# Altium footprint library 74LVC07A.PcbLib: 1 footprints
Each footprint in its own frame and in the unit in brackets; x right, y up, seen from the top. Pads: shape width x height; smd on the part's side, far side on the other; paste and mask are expansions set on the pad; w line width, h text height; cw(c..) or ccw(c..) is an arc to the next point about the centre after c.
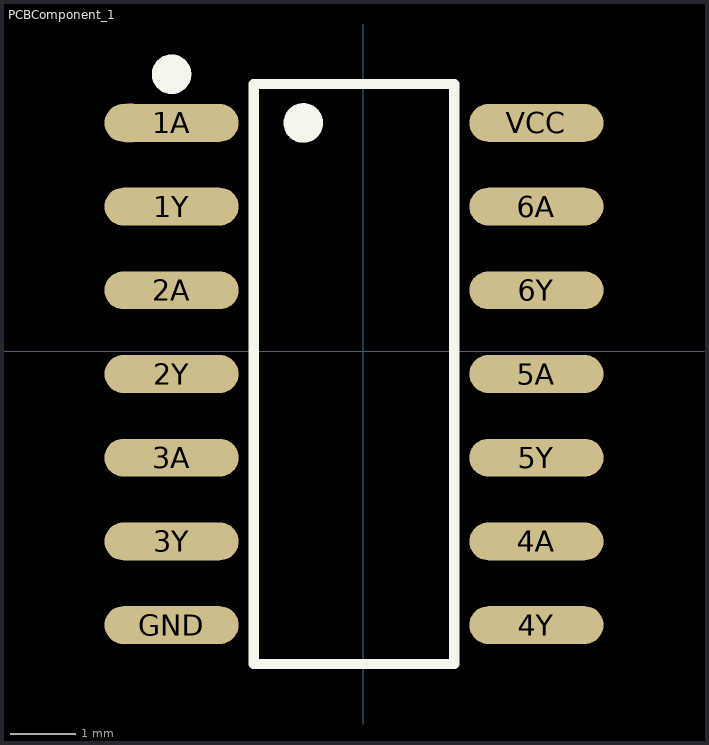
[diagram p0: the footprint, top view; thin cyan lines are the x and y axes]

## PCBComponent_1 [mm]
pads (14):
  oval 2.038x0.574 smd: 1A(-2.91,3.461) 1Y(-2.91,2.191) 2A(-2.91,0.921) 2Y(-2.91,-0.349) 3A(-2.91,-1.619) 3Y(-2.91,-2.889) 4A(2.628,-2.889) 4Y(2.628,-4.159) 5A(2.628,-0.349) 5Y(2.628,-1.619) 6A(2.628,2.191) 6Y(2.628,0.921) GND(-2.91,-4.159) VCC(2.628,3.461)
Top Overlay:
  circle w0.3: c-2.91,4.2 r0.15
  circle w0.3: c-0.91,3.461 r0.15
  lines w0.152: -1.662,-4.75 -1.662,4.052 1.38,4.052 1.38,-4.75 -1.662,-4.75
Mechanical 15:
  circle w0.3: c-3.541,3.461 r0.15